# Altium footprint library 基站封装.PcbLib: 1 footprints
Each footprint in its own frame and in the unit in brackets; x right, y up, seen from the top. Pads: shape width x height; smd on the part's side, far side on the other; paste and mask are expansions set on the pad; w line width, h text height; cw(c..) or ccw(c..) is an arc to the next point about the centre after c.
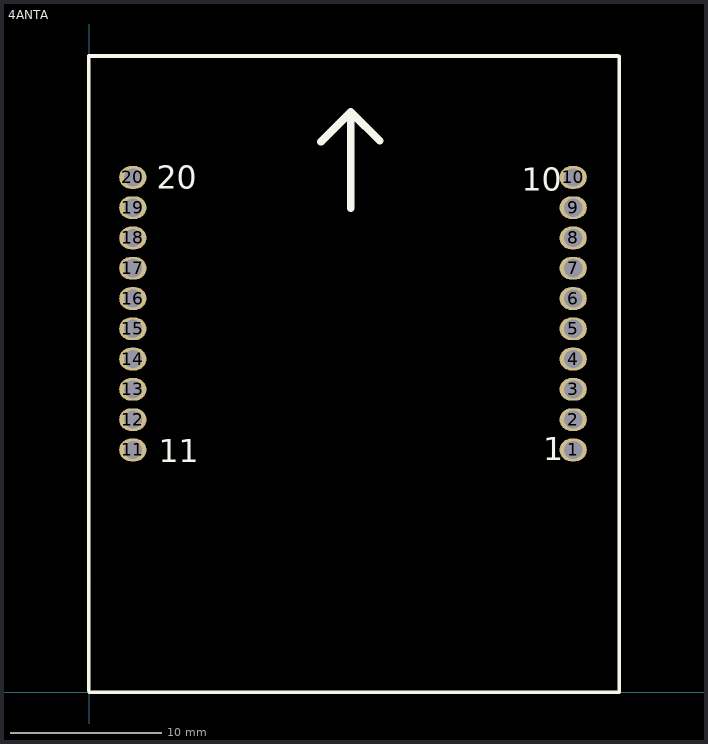
[diagram p0: the footprint, top view; thin cyan lines are the x and y axes]

## 4ANTA [mm]
height 1.6
pads (20):
  oval 1.8x1.5 hole 1.2: 1(31.957,16) 2(31.957,18) 3(31.957,20) 4(31.957,22) 5(31.957,24) 6(31.957,26) 7(31.957,28) 8(31.957,30) 9(31.957,32) 10(31.957,34) 11(2.874,16) 12(2.874,18) 13(2.874,20) 14(2.874,22) 15(2.874,24) 16(2.874,26) 17(2.874,28) 18(2.874,30) 19(2.874,32) 20(2.874,34)
Top Overlay:
  lines w0.254: -0.038,0.092 -0.038,7.837 ; -0.038,7.547 -0.038,42.03 ; -0.03,42.023 34.902,42.023 ; 0,0 35,0 35,42
  lines w0.508: 15.303,36.348 17.272,38.317 17.272,31.967 ; 17.272,38.253 17.335,38.253 19.177,36.412
  text "20" at 4.445,33.237 h1.52
  text "11" at 4.572,15.203 h1.52
  text "10" at 28.575,33.11 h1.52
  text "1" at 29.972,15.33 h1.52
Mechanical 13:
  lines w0.203: -0.038,7.547 -0.023,7.532